# Altium schematic symbol library esp12F.SchLib: 9 symbols
Pins are listed as number, name and electrical type; pins without a type are passive.

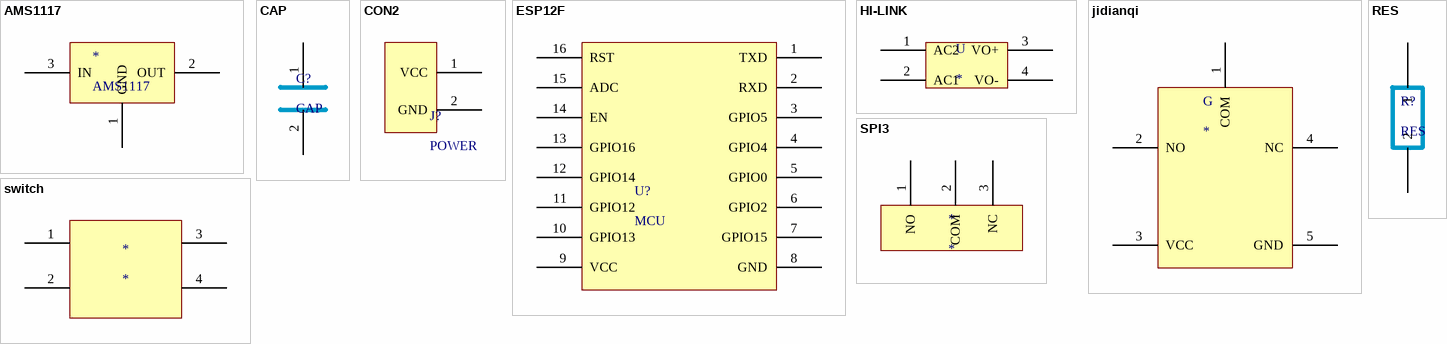
[diagram p0: symbols AMS1117 to switch]

## AMS1117
designator *
pins: 1 GND, 2 OUT, 3 IN

## CAP
designator C?
pins: 1, 2

## CON2
designator J?, comment POWER
pins: 1 VCC, 2 GND

## ESP12F
designator U?, comment MCU
pins: 1 TXD, 2 RXD, 3 GPIO5, 4 GPIO4, 5 GPIO0, 6 GPIO2, 7 GPIO15, 8 GND, 9 VCC, 10 GPIO13, 11 GPIO12, 12 GPIO14, 13 GPIO16, 14 EN, 15 ADC, 16 RST

## HI-LINK
designator U
pins: 1 AC2, 2 AC1, 3 VO+, 4 VO-

## jidianqi
designator G
pins: 1 COM, 2 NO, 3 VCC, 4 NC, 5 GND

## RES
designator R?
pins: 1, 2

## SPI3
designator *
pins: 1 NO, 2 COM, 3 NC

## switch
designator *
pins: 1, 2 24, 3 25, 4 26